# Altium footprint library Package_LGA.PcbLib: 37 footprints (part 2 of 3)
Each footprint in its own frame and in the unit in brackets; x right, y up, seen from the top. Pads: shape width x height; smd on the part's side, far side on the other; paste and mask are expansions set on the pad; w line width, h text height; cw(c..) or ccw(c..) is an arc to the next point about the centre after c.
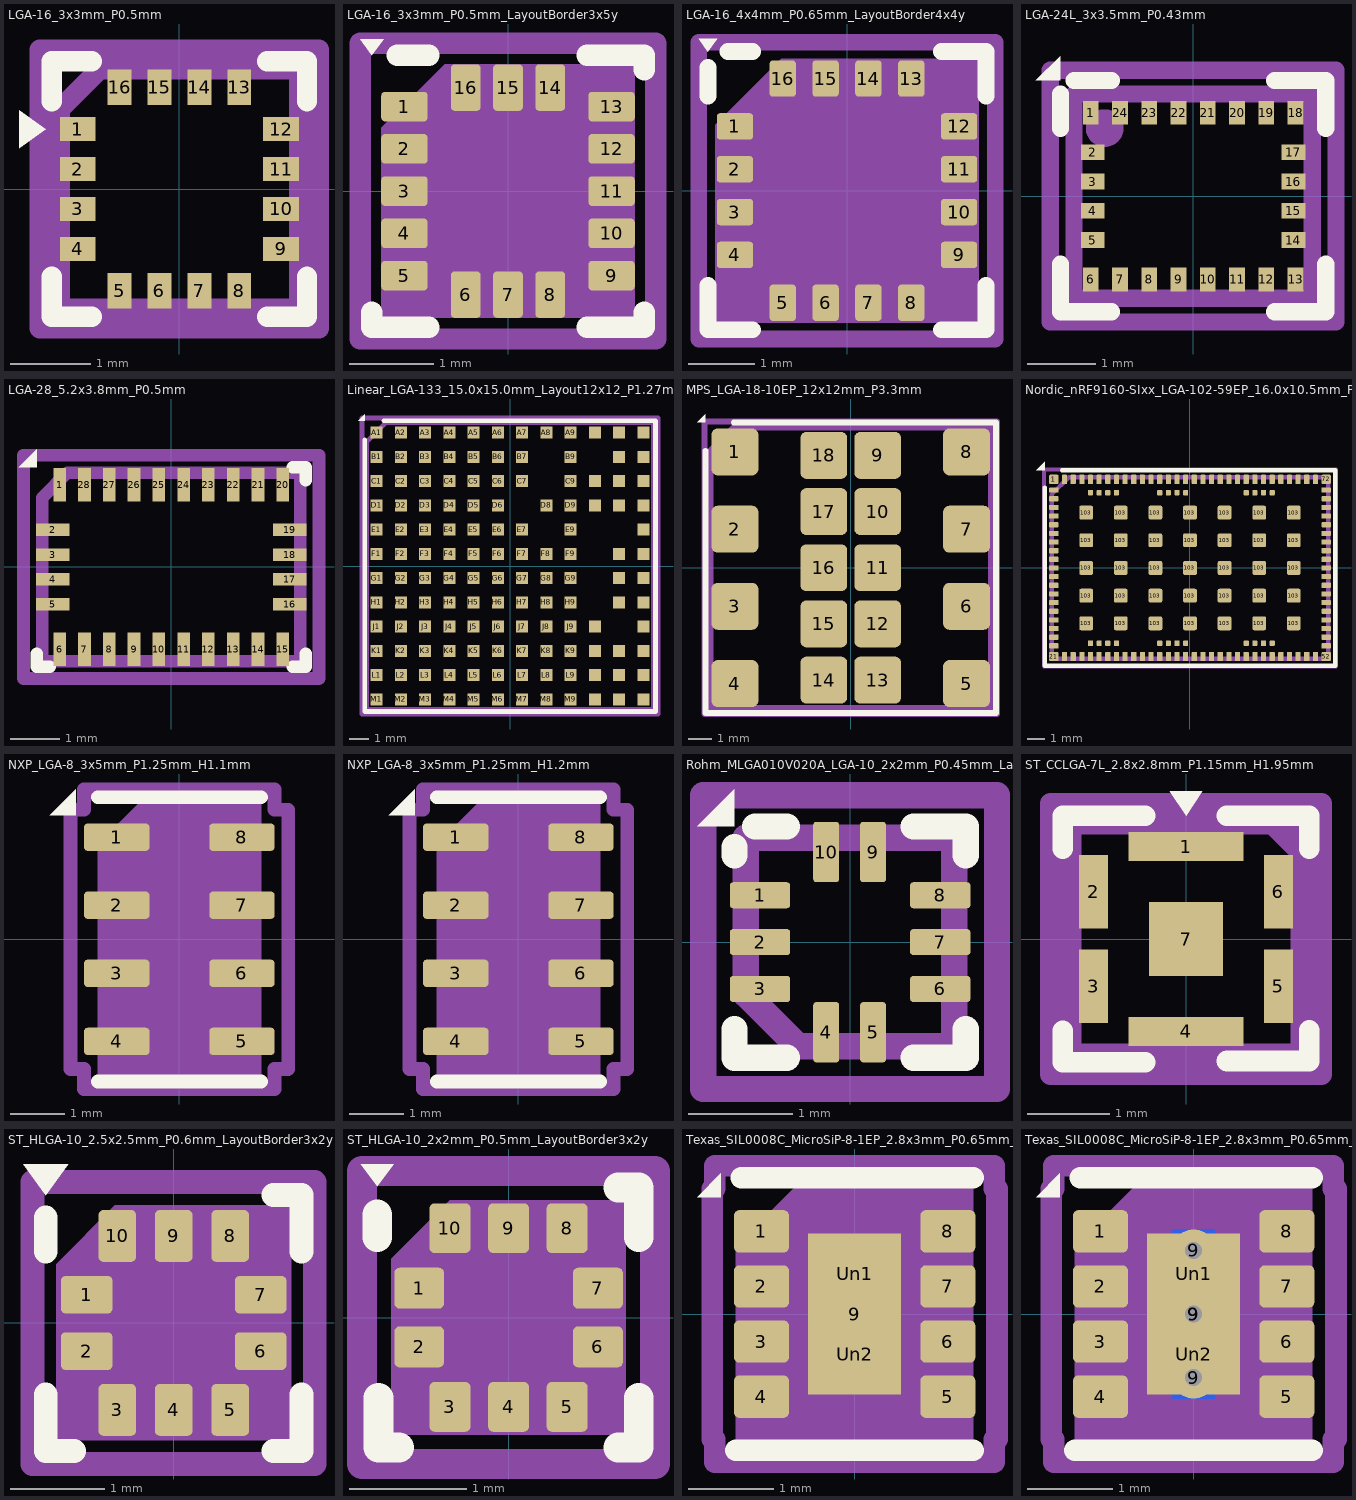
[diagram p1: the footprints below, top view; thin cyan lines are the x and y axes]

## LGA-16_3x3mm_P0.5mm [mm]
pads (16):
  rect 0.45x0.3 smd: 1(-1.275,0.75) 2(-1.275,0.25) 3(-1.275,-0.25) 4(-1.275,-0.75) 9(1.275,-0.75) 10(1.275,-0.25) 11(1.275,0.25) 12(1.275,0.75)
  rect 0.3x0.45 smd: 5(-0.75,-1.275) 6(-0.25,-1.275) 7(0.25,-1.275) 8(0.75,-1.275) 13(0.75,1.275) 14(0.25,1.275) 15(-0.25,1.275) 16(-0.75,1.275)
F.SilkS:
  region: -1.675,0.75 -2.011,0.51 -2.011,0.99
  lines w0.254: -1.6,-1.1 -1.6,-1.6 -1.1,-1.6 ; -1.6,1.1 -1.6,1.6 -1.1,1.6 ; 1.1,-1.6 1.6,-1.6 1.6,-1.1 ; 1.1,1.6 1.6,1.6 1.6,1.1
Top Assembly:
  lines w0.254: -1.5,-1.5 1.5,-1.5 1.5,1.5 -1,1.5 -1.5,1 -1.5,-1.5
  text "'.Designator'" at -1.619,-0.336 h0.4
Top Courtyard:
  lines w0.254: -1.75,-1.75 1.75,-1.75 1.75,1.75 -1.75,1.75 -1.75,-1.75
Top Designator:
  text ".Designator" at -7.685,-0.508 h1.52

## LGA-16_3x3mm_P0.5mm_LayoutBorder3x5y [mm]
pads (16):
  rrect25% 0.55x0.35 smd: 1(-1.225,1) 2(-1.225,0.5) 3(-1.225,0) 4(-1.225,-0.5) 5(-1.225,-1) 9(1.225,-1) 10(1.225,-0.5) 11(1.225,0) 12(1.225,0.5) 13(1.225,1)
  rrect25% 0.35x0.55 smd: 6(-0.5,-1.225) 7(0,-1.225) 8(0.5,-1.225) 14(0.5,1.225) 15(0,1.225) 16(-0.5,1.225)
F.SilkS:
  region: -1.61,1.61 -1.75,1.8 -1.47,1.8
  lines w0.254: -1.61,-1.435 -1.61,-1.61 -0.935,-1.61 ; -1.31,1.61 -0.935,1.61 ; 0.935,-1.61 1.61,-1.61 1.61,-1.435 ; 0.935,1.61 1.61,1.61 1.61,1.435
Top Assembly:
  region: 1.5,-1.5 -1.5,-1.5 -1.5,0.75 -0.75,1.5 1.5,1.5
  text "'.Designator'" at -3.033,-0.628 h0.75
Top Courtyard:
  lines w0.254: -1.75,-1.75 1.75,-1.75 1.75,1.75 -1.75,1.75 -1.75,-1.75
Top Designator:
  text ".Designator" at -7.728,-0.508 h1.52

## LGA-16_4x4mm_P0.65mm_LayoutBorder4x4y [mm]
pads (16):
  rrect25% 0.55x0.4 smd: 1(-1.7,0.975) 2(-1.7,0.325) 3(-1.7,-0.325) 4(-1.7,-0.975) 9(1.7,-0.975) 10(1.7,-0.325) 11(1.7,0.325) 12(1.7,0.975)
  rrect25% 0.4x0.55 smd: 5(-0.975,-1.7) 6(-0.325,-1.7) 7(0.325,-1.7) 8(0.975,-1.7) 13(0.975,1.7) 14(0.325,1.7) 15(-0.325,1.7) 16(-0.975,1.7)
F.SilkS:
  region: -2.11,2.11 -2.25,2.3 -1.97,2.3
  lines w0.254: -2.11,-1.435 -2.11,-2.11 -1.435,-2.11 ; -2.11,1.435 -2.11,1.87 ; -1.81,2.11 -1.435,2.11 ; 1.435,-2.11 2.11,-2.11 2.11,-1.435 ; 1.435,2.11 2.11,2.11 2.11,1.435
Top Assembly:
  region: 2,-2 -2,-2 -2,1 -1,2 2,2
  text "'.Designator'" at -4.047,-0.84 h1
Top Courtyard:
  lines w0.254: -2.25,-2.25 2.25,-2.25 2.25,2.25 -2.25,2.25 -2.25,-2.25
Top Designator:
  text ".Designator" at -7.768,-0.508 h1.52

## LGA-24L_3x3.5mm_P0.43mm [mm]
pads (24):
  rect 0.23x0.35 smd: 1(-1.505,1.225) 6(-1.505,-1.225) 7(-1.075,-1.225) 8(-0.645,-1.225) 9(-0.215,-1.225) 10(0.215,-1.225) 11(0.645,-1.225) 12(1.075,-1.225) 13(1.505,-1.225) 18(1.505,1.225) 19(1.075,1.225) 20(0.645,1.225) 21(0.215,1.225) 22(-0.215,1.225) 23(-0.645,1.225) 24(-1.075,1.225)
  rect 0.35x0.23 smd: 2(-1.475,0.645) 3(-1.475,0.215) 4(-1.475,-0.215) 5(-1.475,-0.645) 14(1.475,-0.645) 15(1.475,-0.215) 16(1.475,0.215) 17(1.475,0.645)
F.SilkS:
  region: -1.95,1.7 -2.31,1.7 -1.95,2.06
  lines w0.254: -1.95,-1 -1.95,-1.7 -1.2,-1.7 ; -1.95,1 -1.95,1.5 ; -1.75,1.7 -1.2,1.7 ; 1.2,-1.7 1.95,-1.7 1.95,-1 ; 1.2,1.7 1.95,1.7 1.95,1
Top Assembly:
  circle w0.254: c-1.3,1 r0.15
  circle w0.254: c-1.3,1 r0.05
  lines w0.254: -1.75,-1.5 1.75,-1.5 1.75,1.5 -1.75,1.5 -1.75,-1.5
  text "'.Designator'" at -4.047,1.86 h1
Top Courtyard:
  lines w0.254: -2.1,-1.85 2.1,-1.85 2.1,1.85 -2.1,1.85 -2.1,-1.85
Top Designator:
  text ".Designator" at -7.768,0.032 h1.52

## LGA-28_5.2x3.8mm_P0.5mm [mm]
pads (28):
  rect 0.254x0.675 smd: 1(-2.25,1.663) 6(-2.25,-1.663) 7(-1.75,-1.663) 8(-1.25,-1.663) 9(-0.75,-1.663) 10(-0.25,-1.663) 11(0.25,-1.663) 12(0.75,-1.663) 13(1.25,-1.663) 14(1.75,-1.663) 15(2.25,-1.663) 20(2.25,1.663) 21(1.75,1.663) 22(1.25,1.663) 23(0.75,1.663) 24(0.25,1.663) 25(-0.25,1.663) 26(-0.75,1.663) 27(-1.25,1.663) 28(-1.75,1.663)
  rect 0.675x0.254 smd: 2(-2.388,0.75) 3(-2.388,0.25) 4(-2.388,-0.25) 5(-2.388,-0.75) 16(2.388,-0.75) 17(2.388,-0.25) 18(2.388,0.25) 19(2.388,0.75)
F.SilkS:
  region: -2.71,2.01 -3.07,2.01 -2.71,2.37
  lines w0.254: -2.71,-1.75 -2.71,-2.01 -2.45,-2.01 ; 2.45,-2.01 2.71,-2.01 2.71,-1.75 ; 2.45,2.01 2.71,2.01 2.71,1.75
Top Assembly:
  lines w0.254: -2.6,-1.9 2.6,-1.9 2.6,1.9 -2.1,1.9 -2.6,1.4 -2.6,-1.9
  text "'.Designator'" at -4.396,-0.869 h1.1
Top Courtyard:
  lines w0.254: -2.98,-2.25 2.98,-2.25 2.98,2.25 -2.98,2.25 -2.98,-2.25
Top Designator:
  text ".Designator" at -7.728,-0.508 h1.52

## Linear_LGA-133_15.0x15.0mm_Layout12x12_P1.27mm [mm]
pads (133):
  rect 0.63x0.63 smd: A1(-6.985,6.985) A2(-5.715,6.985) A3(-4.445,6.985) A4(-3.175,6.985) A5(-1.905,6.985) A6(-0.635,6.985) A7(0.635,6.985) A8(1.905,6.985) A9(3.175,6.985) A10(4.445,6.985) A11(5.715,6.985) A12(6.985,6.985) B1(-6.985,5.715) B2(-5.715,5.715) B3(-4.445,5.715) B4(-3.175,5.715) B5(-1.905,5.715) B6(-0.635,5.715) B7(0.635,5.715) B9(3.175,5.715) B11(5.715,5.715) B12(6.985,5.715) C1(-6.985,4.445) C2(-5.715,4.445) C3(-4.445,4.445) C4(-3.175,4.445) C5(-1.905,4.445) C6(-0.635,4.445) C7(0.635,4.445) C9(3.175,4.445) C10(4.445,4.445) C11(5.715,4.445) C12(6.985,4.445) D1(-6.985,3.175) D2(-5.715,3.175) D3(-4.445,3.175) D4(-3.175,3.175) D5(-1.905,3.175) D6(-0.635,3.175) D8(1.905,3.175) D9(3.175,3.175) D10(4.445,3.175) D11(5.715,3.175) D12(6.985,3.175) E1(-6.985,1.905) E2(-5.715,1.905) E3(-4.445,1.905) E4(-3.175,1.905) E5(-1.905,1.905) E6(-0.635,1.905) E7(0.635,1.905) E9(3.175,1.905) E12(6.985,1.905) F1(-6.985,0.635) F2(-5.715,0.635) F3(-4.445,0.635) F4(-3.175,0.635) F5(-1.905,0.635) F6(-0.635,0.635) F7(0.635,0.635) F8(1.905,0.635) F9(3.175,0.635) F11(5.715,0.635) F12(6.985,0.635) G1(-6.985,-0.635) G2(-5.715,-0.635) G3(-4.445,-0.635) G4(-3.175,-0.635) G5(-1.905,-0.635) G6(-0.635,-0.635) G7(0.635,-0.635) G8(1.905,-0.635) G9(3.175,-0.635) G11(5.715,-0.635) G12(6.985,-0.635) H1(-6.985,-1.905) H2(-5.715,-1.905) H3(-4.445,-1.905) H4(-3.175,-1.905) H5(-1.905,-1.905) H6(-0.635,-1.905) H7(0.635,-1.905) H8(1.905,-1.905) H9(3.175,-1.905) H11(5.715,-1.905) H12(6.985,-1.905) J1(-6.985,-3.175) J2(-5.715,-3.175) J3(-4.445,-3.175) J4(-3.175,-3.175) J5(-1.905,-3.175) J6(-0.635,-3.175) J7(0.635,-3.175) J8(1.905,-3.175) J9(3.175,-3.175) J10(4.445,-3.175) J12(6.985,-3.175) K1(-6.985,-4.445) K2(-5.715,-4.445) K3(-4.445,-4.445) K4(-3.175,-4.445) K5(-1.905,-4.445) K6(-0.635,-4.445) K7(0.635,-4.445) K8(1.905,-4.445) K9(3.175,-4.445) K10(4.445,-4.445) K11(5.715,-4.445) K12(6.985,-4.445) L1(-6.985,-5.715) L2(-5.715,-5.715) L3(-4.445,-5.715) L4(-3.175,-5.715) L5(-1.905,-5.715) L6(-0.635,-5.715) L7(0.635,-5.715) L8(1.905,-5.715) L9(3.175,-5.715) L10(4.445,-5.715) L11(5.715,-5.715) L12(6.985,-5.715) M1(-6.985,-6.985) M2(-5.715,-6.985) M3(-4.445,-6.985) M4(-3.175,-6.985) M5(-1.905,-6.985) M6(-0.635,-6.985) M7(0.635,-6.985) M8(1.905,-6.985) M9(3.175,-6.985) M10(4.445,-6.985) M11(5.715,-6.985) M12(6.985,-6.985)
F.SilkS:
  region: -7.6,7.6 -7.96,7.6 -7.6,7.96
  lines w0.254: -7.61,6.61 -7.61,-7.61 7.61,-7.61 7.61,7.61 -6.61,7.61
Top Assembly:
  lines w0.254: -7.5,-7.5 7.5,-7.5 7.5,7.5 -6.5,7.5 -7.5,6.5 -7.5,-7.5
  text "'.Designator'" at -4.047,-0.84 h1
Top Courtyard:
  lines w0.254: -7.75,-7.75 7.75,-7.75 7.75,7.75 -7.75,7.75 -7.75,-7.75
Top Designator:
  text ".Designator" at -7.659,-0.466 h1.52

## MPS_LGA-18-10EP_12x12mm_P3.3mm [mm]
pads (18):
  rrect25% 2x2 smd: 1(-4.95,4.95) 2(-4.95,1.65) 3(-4.95,-1.65) 4(-4.95,-4.95) 5(4.95,-4.95) 6(4.95,-1.65) 7(4.95,1.65) 8(4.95,4.95) 9(1.15,4.8) 10(1.15,2.4) 11(1.15,0) 12(1.15,-2.4) 13(1.15,-4.8) 14(-1.15,-4.8) 15(-1.15,-2.4) 16(-1.15,0) 17(-1.15,2.4) 18(-1.15,4.8)
F.SilkS:
  region: -6.21,6.21 -6.57,6.21 -6.21,6.57
  lines w0.254: -6.21,5 -6.21,-6.21 6.21,-6.21 6.21,6.21 -5,6.21
Top Assembly:
  lines w0.254: -6,-6 6,-6 6,6 -5,6 -6,5 -6,-6
  text "'.Designator'" at -4.047,-0.84 h1
Top Courtyard:
  lines w0.254: -6.25,-6.25 6.25,-6.25 6.25,6.25 -6.25,6.25 -6.25,-6.25
Top Designator:
  text ".Designator" at -7.714,-0.411 h1.52

## Nordic_nRF9160-SIxx_LGA-102-59EP_16.0x10.5mm_P0.5mm [mm]
pads (161):
  rrect25% 0.54x0.54 smd: 1(-7.87,5.12) 21(-7.87,-5.12) 52(7.87,-5.12) 72(7.87,5.12)
  rrect25% 0.54x0.3 smd: 2(-7.87,4.5) 3(-7.87,4) 4(-7.87,3.5) 5(-7.87,3) 6(-7.87,2.5) 7(-7.87,2) 8(-7.87,1.5) 9(-7.87,1) 10(-7.87,0.5) 11(-7.87,0) 12(-7.87,-0.5) 13(-7.87,-1) 14(-7.87,-1.5) 15(-7.87,-2) 16(-7.87,-2.5) 17(-7.87,-3) 18(-7.87,-3.5) 19(-7.87,-4) 20(-7.87,-4.5) 53(7.87,-4.5) 54(7.87,-4) 55(7.87,-3.5) 56(7.87,-3) 57(7.87,-2.5) 58(7.87,-2) 59(7.87,-1.5) 60(7.87,-1) 61(7.87,-0.5) 62(7.87,0) 63(7.87,0.5) 64(7.87,1) 65(7.87,1.5) 66(7.87,2) 67(7.87,2.5) 68(7.87,3) 69(7.87,3.5) 70(7.87,4) 71(7.87,4.5)
  rrect25% 0.3x0.54 smd: 22(-7.25,-5.12) 23(-6.75,-5.12) 24(-6.25,-5.12) 25(-5.75,-5.12) 26(-5.25,-5.12) 27(-4.75,-5.12) 28(-4.25,-5.12) 29(-3.75,-5.12) 30(-3.25,-5.12) 31(-2.75,-5.12) 32(-2.25,-5.12) 33(-1.75,-5.12) 34(-1.25,-5.12) 35(-0.75,-5.12) 36(-0.25,-5.12) 37(0.25,-5.12) 38(0.75,-5.12) 39(1.25,-5.12) 40(1.75,-5.12) 41(2.25,-5.12) 42(2.75,-5.12) 43(3.25,-5.12) 44(3.75,-5.12) 45(4.25,-5.12) 46(4.75,-5.12) 47(5.25,-5.12) 48(5.75,-5.12) 49(6.25,-5.12) 50(6.75,-5.12) 51(7.25,-5.12) 73(7.25,5.12) 74(6.75,5.12) 75(6.25,5.12) 76(5.75,5.12) 77(5.25,5.12) 78(4.75,5.12) 79(4.25,5.12) 80(3.75,5.12) 81(3.25,5.12) 82(2.75,5.12) 83(2.25,5.12) 84(1.75,5.12) 85(1.25,5.12) 86(0.75,5.12) 87(0.25,5.12) 88(-0.25,5.12) 89(-0.75,5.12) 90(-1.25,5.12) 91(-1.75,5.12) 92(-2.25,5.12) 93(-2.75,5.12) 94(-3.25,5.12) 95(-3.75,5.12) 96(-4.25,5.12) 97(-4.75,5.12) 98(-5.25,5.12) 99(-5.75,5.12) 100(-6.25,5.12) 101(-6.75,5.12) 102(-7.25,5.12)
  rrect25% 0.8x0.8 smd: 103(-6,-3.2) 103(-6,-1.6) 103(-6,0) 103(-6,1.6) 103(-6,3.2) 103(-4,-3.2) 103(-4,-1.6) 103(-4,0) 103(-4,1.6) 103(-4,3.2) 103(-2,-3.2) 103(-2,-1.6) 103(-2,0) 103(-2,1.6) 103(-2,3.2) 103(0,-3.2) 103(0,-1.6) 103(0,0) 103(0,1.6) 103(0,3.2) 103(2,-3.2) 103(2,-1.6) 103(2,0) 103(2,1.6) 103(2,3.2) 103(4,-3.2) 103(4,-1.6) 103(4,0) 103(4,1.6) 103(4,3.2) 103(6,-3.2) 103(6,-1.6) 103(6,0) 103(6,1.6) 103(6,3.2)
  rrect25% 0.3x0.3 smd: 104(-5.75,-4.35) 105(-5.25,-4.35) 106(-4.75,-4.35) 107(-4.25,-4.35) 108(-1.75,-4.35) 109(-1.25,-4.35) 110(-0.75,-4.35) 111(-0.25,-4.35) 112(3.25,-4.35) 113(3.75,-4.35) 114(4.25,-4.35) 115(4.75,-4.35) 116(4.75,4.35) 117(4.25,4.35) 118(3.75,4.35) 119(3.25,4.35) 120(-0.25,4.35) 121(-0.75,4.35) 122(-1.25,4.35) 123(-1.75,4.35) 124(-4.25,4.35) 125(-4.75,4.35) 126(-5.25,4.35) 127(-5.75,4.35)
F.SilkS:
  region: -8.4,5.65 -8.9,5.65 -8.4,6.15
  lines w0.254: -8.4,4.65 -8.4,-5.65 8.4,-5.65 8.4,5.65 -7.4,5.65
Top Assembly:
  lines w0.254: -8,-5.25 8,-5.25 8,5.25 -7,5.25 -8,4.25 -8,-5.25
  text "'.Designator'" at -4.047,-0.84 h1
Top Courtyard:
  lines w0.254: -8.44,-5.69 8.44,-5.69 8.44,5.69 -8.44,5.69 -8.44,-5.69
Top Designator:
  text ".Designator" at -7.784,-0.341 h1.52

## NXP_LGA-8_3x5mm_P1.25mm_H1.1mm [mm]
pads (8):
  rrect25% 1.2x0.5 smd: 1(-1.15,1.875) 2(-1.15,0.625) 3(-1.15,-0.625) 4(-1.15,-1.875) 5(1.15,-1.875) 6(1.15,-0.625) 7(1.15,0.625) 8(1.15,1.875)
F.SilkS:
  region: -1.9,2.28 -2.38,2.28 -1.9,2.76
  lines w0.254: -1.5,-2.61 1.5,-2.61 ; -1.5,2.61 1.5,2.61
Top Assembly:
  region: 1.5,-2.5 -1.5,-2.5 -1.5,1.75 -0.75,2.5 1.5,2.5
  text "'.Designator'" at 0.84,-4.047 h1
Top Courtyard:
  lines w0.254: -2,-2.38 -1.75,-2.38 -1.75,-2.75 1.75,-2.75 1.75,-2.38 2,-2.38 2,2.38 1.75,2.38 1.75,2.75 -1.75,2.75 -1.75,2.38 -2,2.38 -2,-2.38
Top Designator:
  text ".Designator" at -7.744,-0.658 h1.52

## NXP_LGA-8_3x5mm_P1.25mm_H1.2mm [mm]
pads (8):
  rrect25% 1.2x0.5 smd: 1(-1.15,1.875) 2(-1.15,0.625) 3(-1.15,-0.625) 4(-1.15,-1.875) 5(1.15,-1.875) 6(1.15,-0.625) 7(1.15,0.625) 8(1.15,1.875)
F.SilkS:
  region: -1.9,2.28 -2.38,2.28 -1.9,2.76
  lines w0.254: -1.5,-2.61 1.5,-2.61 ; -1.5,2.61 1.5,2.61
Top Assembly:
  region: 1.5,-2.5 -1.5,-2.5 -1.5,1.75 -0.75,2.5 1.5,2.5
  text "'.Designator'" at 0.84,-4.047 h1
Top Courtyard:
  lines w0.254: -2,-2.38 -1.75,-2.38 -1.75,-2.75 1.75,-2.75 1.75,-2.38 2,-2.38 2,2.38 1.75,2.38 1.75,2.75 -1.75,2.75 -1.75,2.38 -2,2.38 -2,-2.38
Top Designator:
  text ".Designator" at -7.744,-0.658 h1.52

## Rohm_MLGA010V020A_LGA-10_2x2mm_P0.45mm_LayoutBorder2x3y [mm]
pads (10):
  rrect25% 0.58x0.25 smd: 1(-0.865,0.45) 2(-0.865,0) 3(-0.865,-0.45) 6(0.865,-0.45) 7(0.865,0) 8(0.865,0.45)
  rrect25% 0.25x0.58 smd: 4(-0.23,-0.865) 5(0.22,-0.865) 9(0.22,0.865) 10(-0.23,0.865)
F.SilkS:
  region: -1.11,1.11 -1.47,1.11 -1.11,1.47
  lines w0.254: -1.11,-0.835 -1.11,-1.11 -0.61,-1.11 ; -1.11,0.835 -1.11,0.91 ; -0.91,1.11 -0.61,1.11 ; 0.61,-1.11 1.11,-1.11 1.11,-0.835 ; 0.61,1.11 1.11,1.11 1.11,0.835
Top Assembly:
  lines w0.254: -1,-0.5 -0.5,-1 1,-1 1,1 -1,1 -1,-0.5
  text "'.Designator'" at -2.028,-0.425 h0.5
Top Courtyard:
  lines w0.254: -1.41,-1.41 1.41,-1.41 1.41,1.41 -1.41,1.41 -1.41,-1.41
Top Designator:
  text ".Designator" at -7.698,-0.508 h1.52

## ST_CCLGA-7L_2.8x2.8mm_P1.15mm_H1.95mm [mm]
pads (7):
  rrect2% 1.4x0.35 smd: 1(0,1.125) 4(0,-1.125)
  rrect2% 0.35x0.9 smd: 2(-1.125,0.575) 3(-1.125,-0.575) 5(1.125,-0.575) 6(1.125,0.575)
  rrect2% 0.9x0.9 smd: 7(0,0)
F.SilkS:
  region: 0,1.5 -0.2,1.8 0.2,1.8
  lines w0.254: -1.5,-1.12 -1.5,-1.5 -0.5,-1.5 ; -1.5,1.1 -1.5,1.5 -0.5,1.5 ; 0.5,-1.485 1.5,-1.485 1.5,-1.115 ; 0.5,1.5 1.5,1.5 1.5,1.1
Top Assembly:
  lines w0.254: 1.05,1.4 1.4,1.05 ; -1.4,-1.4 1.4,-1.4 1.4,1.4 -1.4,1.4 -1.4,-1.4
  text "'.Designator'" at -4.047,-0.84 h1
Top Courtyard:
  lines w0.254: -1.65,-1.65 1.65,-1.65 1.65,1.65 -1.65,1.65 -1.65,-1.65
Top Designator:
  text ".Designator" at -7.768,-0.496 h1.52

## ST_HLGA-10_2.5x2.5mm_P0.6mm_LayoutBorder3x2y [mm]
pads (10):
  rrect25% 0.55x0.4 smd: 1(-0.925,0.3) 2(-0.925,-0.3) 6(0.925,-0.3) 7(0.925,0.3)
  rrect25% 0.4x0.55 smd: 3(-0.6,-0.925) 4(0,-0.925) 5(0.6,-0.925) 8(0.6,0.925) 9(0,0.925) 10(-0.6,0.925)
F.SilkS:
  region: -1.36,1.36 -1.6,1.69 -1.12,1.69
  lines w0.254: -1.36,-0.76 -1.36,-1.36 -1.06,-1.36 ; -1.36,0.76 -1.36,1.12 ; 1.06,-1.36 1.36,-1.36 1.36,-0.76 ; 1.06,1.36 1.36,1.36 1.36,0.76
Top Assembly:
  region: 1.25,-1.25 -1.25,-1.25 -1.25,0.625 -0.625,1.25 1.25,1.25
  text "'.Designator'" at -2.506,-0.518 h0.62
Top Courtyard:
  lines w0.254: -1.5,-1.5 1.5,-1.5 1.5,1.5 -1.5,1.5 -1.5,-1.5
Top Designator:
  text ".Designator" at -7.708,-0.476 h1.52

## ST_HLGA-10_2x2mm_P0.5mm_LayoutBorder3x2y [mm]
pads (10):
  rrect25% 0.425x0.35 smd: 1(-0.763,0.25) 2(-0.763,-0.25) 6(0.763,-0.25) 7(0.763,0.25)
  rrect25% 0.35x0.425 smd: 3(-0.5,-0.763) 4(0,-0.763) 5(0.5,-0.763) 8(0.5,0.763) 9(0,0.763) 10(-0.5,0.763)
F.SilkS:
  region: -1.12,1.12 -1.26,1.31 -0.98,1.31
  lines w0.254: -1.12,0.685 -1.12,0.88 ; -1.11,-0.685 -1.11,-1.11 -0.935,-1.11 ; 0.935,-1.11 1.11,-1.11 1.11,-0.685 ; 0.935,1.11 1.11,1.11 1.11,0.685
Top Assembly:
  region: 1,-1 -1,-1 -1,0.5 -0.5,1 1,1
  text "'.Designator'" at -2.028,-0.425 h0.5
Top Courtyard:
  lines w0.254: -1.25,-1.25 1.25,-1.25 1.25,1.25 -1.25,1.25 -1.25,-1.25
Top Designator:
  text ".Designator" at -7.698,-0.508 h1.52

## Texas_SIL0008C_MicroSiP-8-1EP_2.8x3mm_P0.65mm_EP1.1x1.9mm [mm]
pads (11):
  rrect25% 0.65x0.5 smd: 1(-1.1,0.975) 2(-1.1,0.325) 3(-1.1,-0.325) 4(-1.1,-0.975) 5(1.1,-0.975) 6(1.1,-0.325) 7(1.1,0.325) 8(1.1,0.975)
  rect 1.1x1.9 smd: 9(0,0)
  rrect25% 0.89x0.77 on Top Paste: Un1(0,0.475) Un2(0,-0.475)
F.SilkS:
  region: -1.58,1.38 -1.86,1.38 -1.58,1.66
  lines w0.254: -1.4,-1.61 1.4,-1.61 ; -1.34,1.61 1.4,1.61
Top Assembly:
  region: 1.4,-1.5 -1.4,-1.5 -1.4,0.8 -0.7,1.5 1.4,1.5
  text "'.Designator'" at 0.628,-3.033 h0.75
Top Courtyard:
  lines w0.254: -1.68,-1.48 -1.65,-1.48 -1.65,-1.75 1.65,-1.75 1.65,-1.48 1.68,-1.48 1.68,1.48 1.65,1.48 1.65,1.75 -1.65,1.75 -1.65,1.48 -1.68,1.48 -1.68,-1.48
Top Designator:
  text ".Designator" at -7.644,-0.618 h1.52

## Texas_SIL0008C_MicroSiP-8-1EP_2.8x3mm_P0.65mm_EP1.1x1.9mm_ThermalVias [mm]
pads (15):
  rrect25% 0.65x0.5 smd: 1(-1.1,0.975) 2(-1.1,0.325) 3(-1.1,-0.325) 4(-1.1,-0.975) 5(1.1,-0.975) 6(1.1,-0.325) 7(1.1,0.325) 8(1.1,0.975)
  round 0.5 hole 0.2: 9(0,-0.75) 9(0,0) 9(0,0.75)
  rect 1.1x1.9 smd: 9(0,0)
  rect 0.5x2 smd far side: 9(0,0)
  rrect25% 1.01x0.88 on Top Paste: Un1(0,0.475) Un2(0,-0.475)
F.SilkS:
  region: -1.58,1.38 -1.86,1.38 -1.58,1.66
  lines w0.254: -1.4,-1.61 1.4,-1.61 ; -1.34,1.61 1.4,1.61
Top Assembly:
  region: 1.4,-1.5 -1.4,-1.5 -1.4,0.8 -0.7,1.5 1.4,1.5
  text "'.Designator'" at 0.628,-3.033 h0.75
Top Courtyard:
  lines w0.254: -1.68,-1.48 -1.65,-1.48 -1.65,-1.75 1.65,-1.75 1.65,-1.48 1.68,-1.48 1.68,1.48 1.65,1.48 1.65,1.75 -1.65,1.75 -1.65,1.48 -1.68,1.48 -1.68,-1.48
Top Designator:
  text ".Designator" at -7.644,-0.618 h1.52